# Altium schematic symbol library TMP236A2DCKR.SchLib: 1 symbol
Pins are listed as number, name and electrical type; pins without a type are passive.

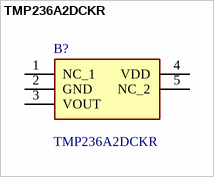
[diagram p0: symbol TMP236A2DCKR]

## TMP236A2DCKR
designator B?
+/-2.5C analog output temperature sensor, with 19.5mV/C gain; Manufacturer_Name: Texas Instruments; Geometry.Height: 1.1mm; Mouser Part Number: 595-TMP236A2DCKR; Mouser Price/Stock: https://www.mouser.co.uk/ProductDetail/Texas-Instruments/TMP236A2DCKR?qs=%252BEew9%252B0nqrAE5COBF10gEQ%3D%3D; Manufacturer_Part_Number: TMP236A2DCKR; Datasheet Link: http://www.ti.com/lit/gpn/tmp236
footprint SOT65P210X110-5N
pins: 1 NC_1, 2 GND, 3 VOUT, 4 VDD, 5 NC_2